# Altium footprint library led_2835_driver_circle_34X34cm.PcbLib: 2 footprints
Each footprint in its own frame and in the unit in brackets; x right, y up, seen from the top. Pads: shape width x height; smd on the part's side, far side on the other; paste and mask are expansions set on the pad; w line width, h text height; cw(c..) or ccw(c..) is an arc to the next point about the centre after c.
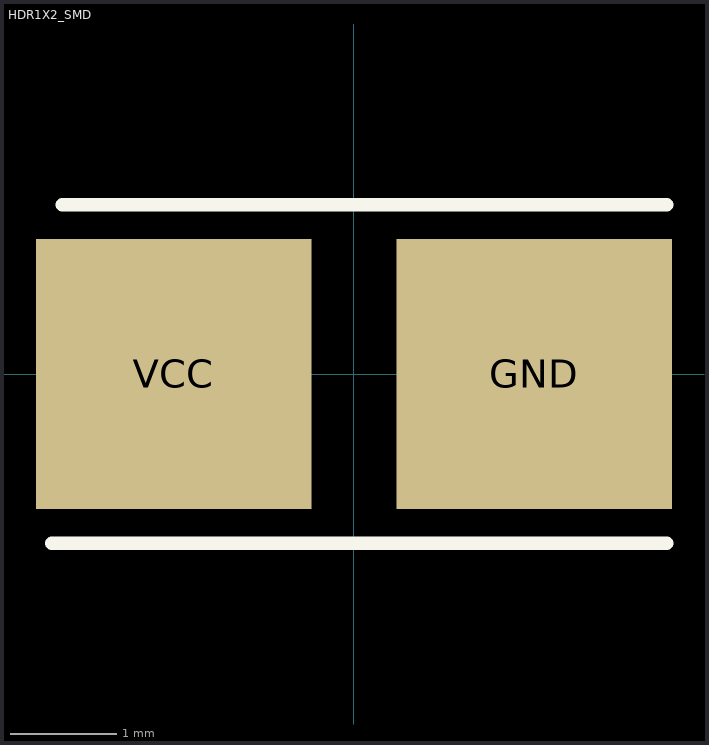
[diagram p0: the footprints below, top view; thin cyan lines are the x and y axes]

## HDR1X2_SMD [mm] "Connector; Header; 2 Position"
pads (2):
  rect 2.6x2.55 smd: GND(1.7,0) VCC(-1.7,0)
Top Overlay:
  lines w0.127: -2.85,-1.595 2.95,-1.595 ; -2.75,1.595 2.95,1.595

## LED_OF-SMD2835Y [mm]